# Altium footprint library QFN40P130X180X60-10N.PcbLib: 1 footprints
Each footprint in its own frame and in the unit in brackets; x right, y up, seen from the top. Pads: shape width x height; smd on the part's side, far side on the other; paste and mask are expansions set on the pad; w line width, h text height; cw(c..) or ccw(c..) is an arc to the next point about the centre after c.
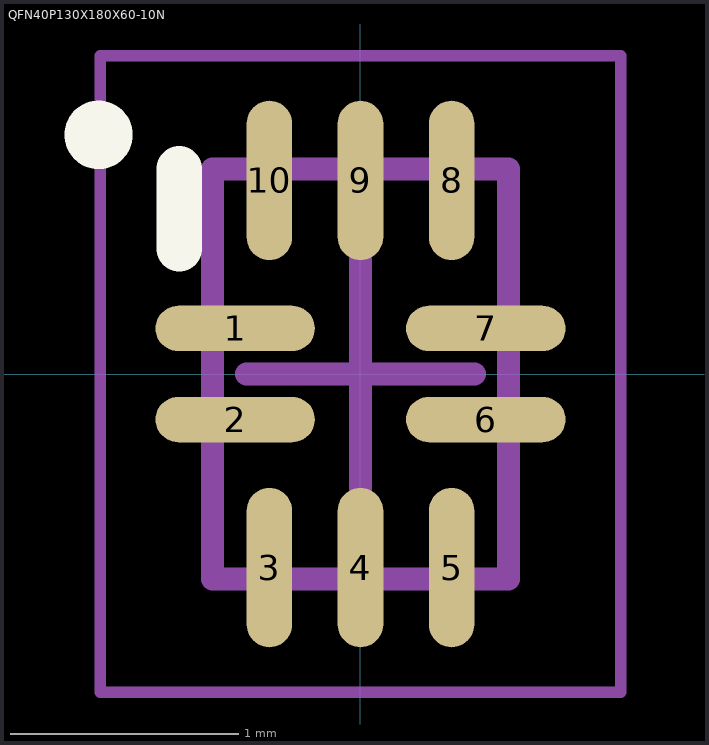
[diagram p0: the footprint, top view; thin cyan lines are the x and y axes]

## QFN40P130X180X60-10N [mm] "QFN, 10-Leads, Body 1.30x1.80mm, Pitch 0.40mm, IPC Medium Density"
height 0.6
pads (10):
  oval 0.7x0.2 smd: 1(-0.55,0.2) 2(-0.55,-0.2) 6(0.55,-0.2) 7(0.55,0.2)
  oval 0.2x0.7 smd: 3(-0.4,-0.85) 4(0,-0.85) 5(0.4,-0.85) 8(0.4,0.85) 9(0,0.85) 10(-0.4,0.85)
Top Overlay:
  circle w0.2: c-1.15,1.05 r0.05
  lines w0.2: -0.796,0.55 -0.796,0.9
Mechanical 13:
  lines w0.1: -0.65,-0.9 0.65,-0.9 0.65,0.9 -0.65,0.9 -0.65,-0.9
Mechanical 15:
  lines w0.05: -1.143,-1.397 1.143,-1.397 1.143,1.397 -1.143,1.397 -1.143,-1.397
  lines w0.1: -0.5,0 0.5,0 ; 0,-0.5 0,0.5
3D body: height 0.6, standoff 0.05, extent -0.65,-0.9 0.65,0.9